# EAGLE library part 52892-3095 (library molex)
CONNECTOR, FPC, ZIF, 0.50MM, 30 WAY
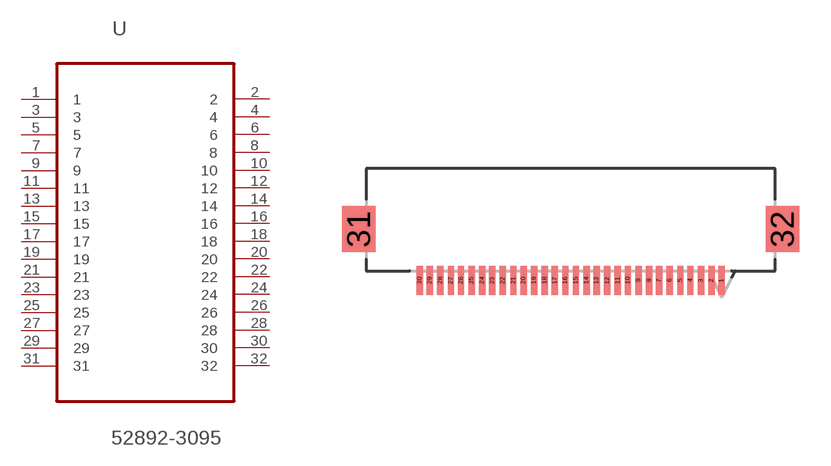
[diagram p34: symbol with the pads of MOLEX_52892-3095; footprint MOLEX_52892-3095]

Designator prefix U

## 52892-3095 (MPN: 52892-3095; OC_FARNELL: 1556810; OC_NEWARK: 74K2580; PACKAGE: CONNECTOR, FPC, ZIF, 0.50MM, 30 WAY; SUPPLIER: Molex)  [MOLEX_52892-3095]
1  1  pas
2  2  pas
3  3  pas
4  4  pas
5  5  pas
6  6  pas
7  7  pas
8  8  pas
9  9  pas
10  10  pas
11  11  pas
12  12  pas
13  13  pas
14  14  pas
15  15  pas
16  16  pas
17  17  pas
18  18  pas
19  19  pas
20  20  pas
21  21  pas
22  22  pas
23  23  pas
24  24  pas
25  25  pas
26  26  pas
27  27  pas
28  28  pas
29  29  pas
30  30  pas
31  31  pas
32  32  pas

## Footprint MOLEX_52892-3095 (pad centres in mm)
smd 0.305 x 1.397: 1 7.239,2.896; 2 6.756,2.896; 3 6.248,2.896; 4 5.74,2.896; 5 5.258,2.896; 6 4.75,2.896; 7 4.242,2.896; 8 3.759,2.896; 9 3.251,2.896; 10 2.743,2.896; 11 2.261,2.896; 12 1.753,2.896; 13 1.245,2.896; 14 0.762,2.896; 15 0.254,2.896; 16 -0.254,2.896; 17 -0.762,2.896; 18 -1.245,2.896; 19 -1.753,2.896; 20 -2.261,2.896; 21 -2.743,2.896; 22 -3.251,2.896; 23 -3.759,2.896; 24 -4.242,2.896; 25 -4.75,2.896; 26 -5.258,2.896; 27 -5.74,2.896; 28 -6.248,2.896; 29 -6.756,2.896; 30 -7.239,2.896
smd 1.6 x 2.21: 31 -10.16,5.359; 32 10.16,5.359